# EAGLE library part LM2717MT-ADJ (library balto)
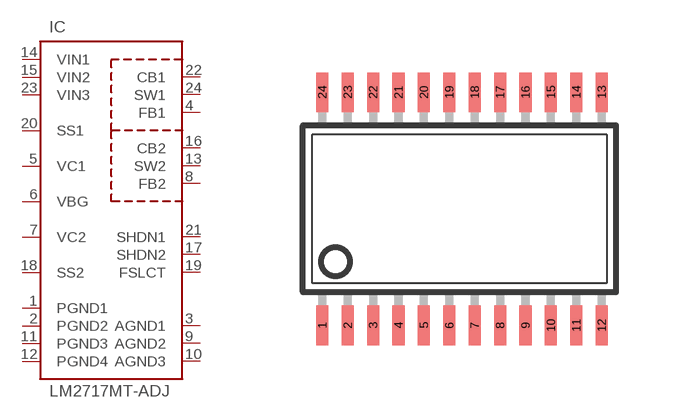
[diagram p7: symbol with the pads of TSSOP024; footprint TSSOP024]

Designator prefix IC

## LM2717MT-ADJ  [TSSOP024]
1  PGND1
2  PGND2
3  AGND1
4  FB1
5  VC1
6  VBG
7  VC2
8  FB2
9  AGND2
10  AGND3
11  PGND3
12  PGND4
13  SW2
14  VIN1
15  VIN2
16  CB2
17  SHDN2
18  SS2
19  FSLCT
20  SS1
21  SHDN1
22  CB1
23  VIN3
24  SW1

## Footprint TSSOP024 (pad centres in mm)
Thin Shrink Small Outline Package
smd 0.305 x 0.991: 1 -3.493,-2.918; 2 -2.857,-2.918; 3 -2.223,-2.918; 4 -1.587,-2.918; 5 -0.953,-2.918; 6 -0.318,-2.918; 7 0.318,-2.918; 8 0.953,-2.918; 9 1.587,-2.918; 10 2.223,-2.918; 11 2.857,-2.918; 12 3.493,-2.918; 13 3.493,2.918; 14 2.857,2.918; 15 2.223,2.918; 16 1.587,2.918; 17 0.953,2.918; 18 0.318,2.918; 19 -0.318,2.918; 20 -0.953,2.918; 21 -1.587,2.918; 22 -2.223,2.918; 23 -2.857,2.918; 24 -3.493,2.918